# EAGLE library part 74F189 (library ds_ic_logic)
IC RAM 64BIT PARALLEL 16SOP
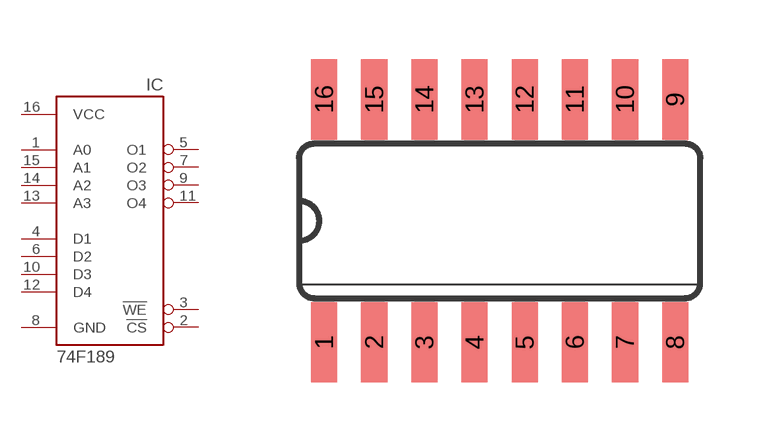
[diagram p9: symbol with the pads of SO16; footprint SO16]

Designator prefix IC

## 74F189 (DATASHEET: https://rocelec.widen.net/view/pdf/jfyqgu36rf/FAIRS17296-1.pdf?t.download=true&u=5oefqw; DESCRIPTION: IC RAM 64BIT PARALLEL 16SOP; DIGIKEY_PART_NUMBER: 2156-74F189SJ-ND; VALUE: 74F189SJ)  [SO16]
1  A0  in
2  !CS  in
3  !WE  in
4  D1  in
5  O1  out
6  D2  in
7  O2  out
8  GND  pwr
9  O3  out
10  D3  in
11  O4  out
12  D4  in
13  A3  in
14  A2  in
15  A1  in
16  VCC  pwr

## Footprint SO16 (pad centres in mm)
Small Outline package 150 mil
smd 0.66 x 2.032: 1 -4.445,-3.073; 2 -3.175,-3.073; 3 -1.905,-3.073; 4 -0.635,-3.073; 5 0.635,-3.073; 6 1.905,-3.073; 7 3.175,-3.073; 8 4.445,-3.073; 9 4.445,3.073; 10 3.175,3.073; 11 1.905,3.073; 12 0.635,3.073; 13 -0.635,3.073; 14 -1.905,3.073; 15 -3.175,3.073; 16 -4.445,3.073